# EAGLE library part SHT3 (library isystems-sensors)
Sensirion SHT3x-DIS Humidity and Temperature Sensor Fully calibrated, linearized, and temperature compensated digital output Wide supply voltage range, from 2.15 V to 5.5 V I2C Interface with communication speeds up to 1MHz and two user selectable addresses Typical accuracy of ± 1.5 %RH and ± 0.1 °C for SHT35 Very fast start-up and measurement time Tiny 8-Pin DFN package
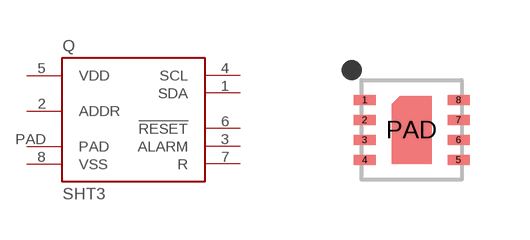
[diagram p1: symbol with the pads of SHT3X-DIS; footprint SHT3X-DIS]

Designator prefix Q

## SHT30-DIS-B, SHT31-DIS-B, SHT35-DIS-B  [SHT3X-DIS]
1  SDA
2  ADDR  in
3  ALARM  out
4  SCL
5  VDD  pwr
6  !RESET
7  R  pas
8  VSS  pwr
PAD  PAD  pwr

## SHT31-DIS-F, SHT35-DIS-F  [SHT3X-DIS]
Pads as for SHT3X-DIS

## SHT31-DIS-P  [SHT3X-DIS]
Pads as for SHT3X-DIS

## Footprint SHT3X-DIS (pad centres in mm)
Sensirion SHT3X-DIS 8pin DFN
smd 0.55 x 0.25: 1 -1.175,0.75; 2 -1.175,0.25; 3 -1.175,-0.25; 4 -1.175,-0.75; 5 1.175,-0.75; 6 1.175,-0.25; 7 1.175,0.25; 8 1.175,0.75
smd 1 x 1: PAD 0,0